# Altium schematic symbol library BTA16-600BWRG.SchLib: 1 symbol
Pins are listed as number, name and electrical type; pins without a type are passive.

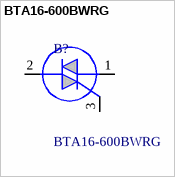
[diagram p0: symbol BTA16-600BWRG]

## BTA16-600BWRG
designator B?
TRIAC BTA16-600BWRG, 600V, Gate Trigger 1.3V 50mA, TO-220AB Insulated 3-Pin; Manufacturer_Name: STMicroelectronics; Geometry.Height: 4.6mm; Mouser Part Number: 511-BTA16-600BW; Mouser Price/Stock: https://www.mouser.co.uk/ProductDetail/STMicroelectronics/BTA16-600BWRG?qs=%2Fa2FmOVcLL%252Bg0jsDx0ejhQ%3D%3D; Manufacturer_Part_Number: BTA16-600BWRG; Datasheet Link: https://www.st.com/resource/en/datasheet/t1610.pdf
footprint TO255P460X1020X2005-3P
pins: 1 A1, 2 A2, 3 G